# Altium footprint library Inductor_THT.PcbLib: 269 footprints (part 15 of 17)
Each footprint in its own frame and in the unit in brackets; x right, y up, seen from the top. Pads: shape width x height; smd on the part's side, far side on the other; paste and mask are expansions set on the pad; w line width, h text height; cw(c..) or ccw(c..) is an arc to the next point about the centre after c.
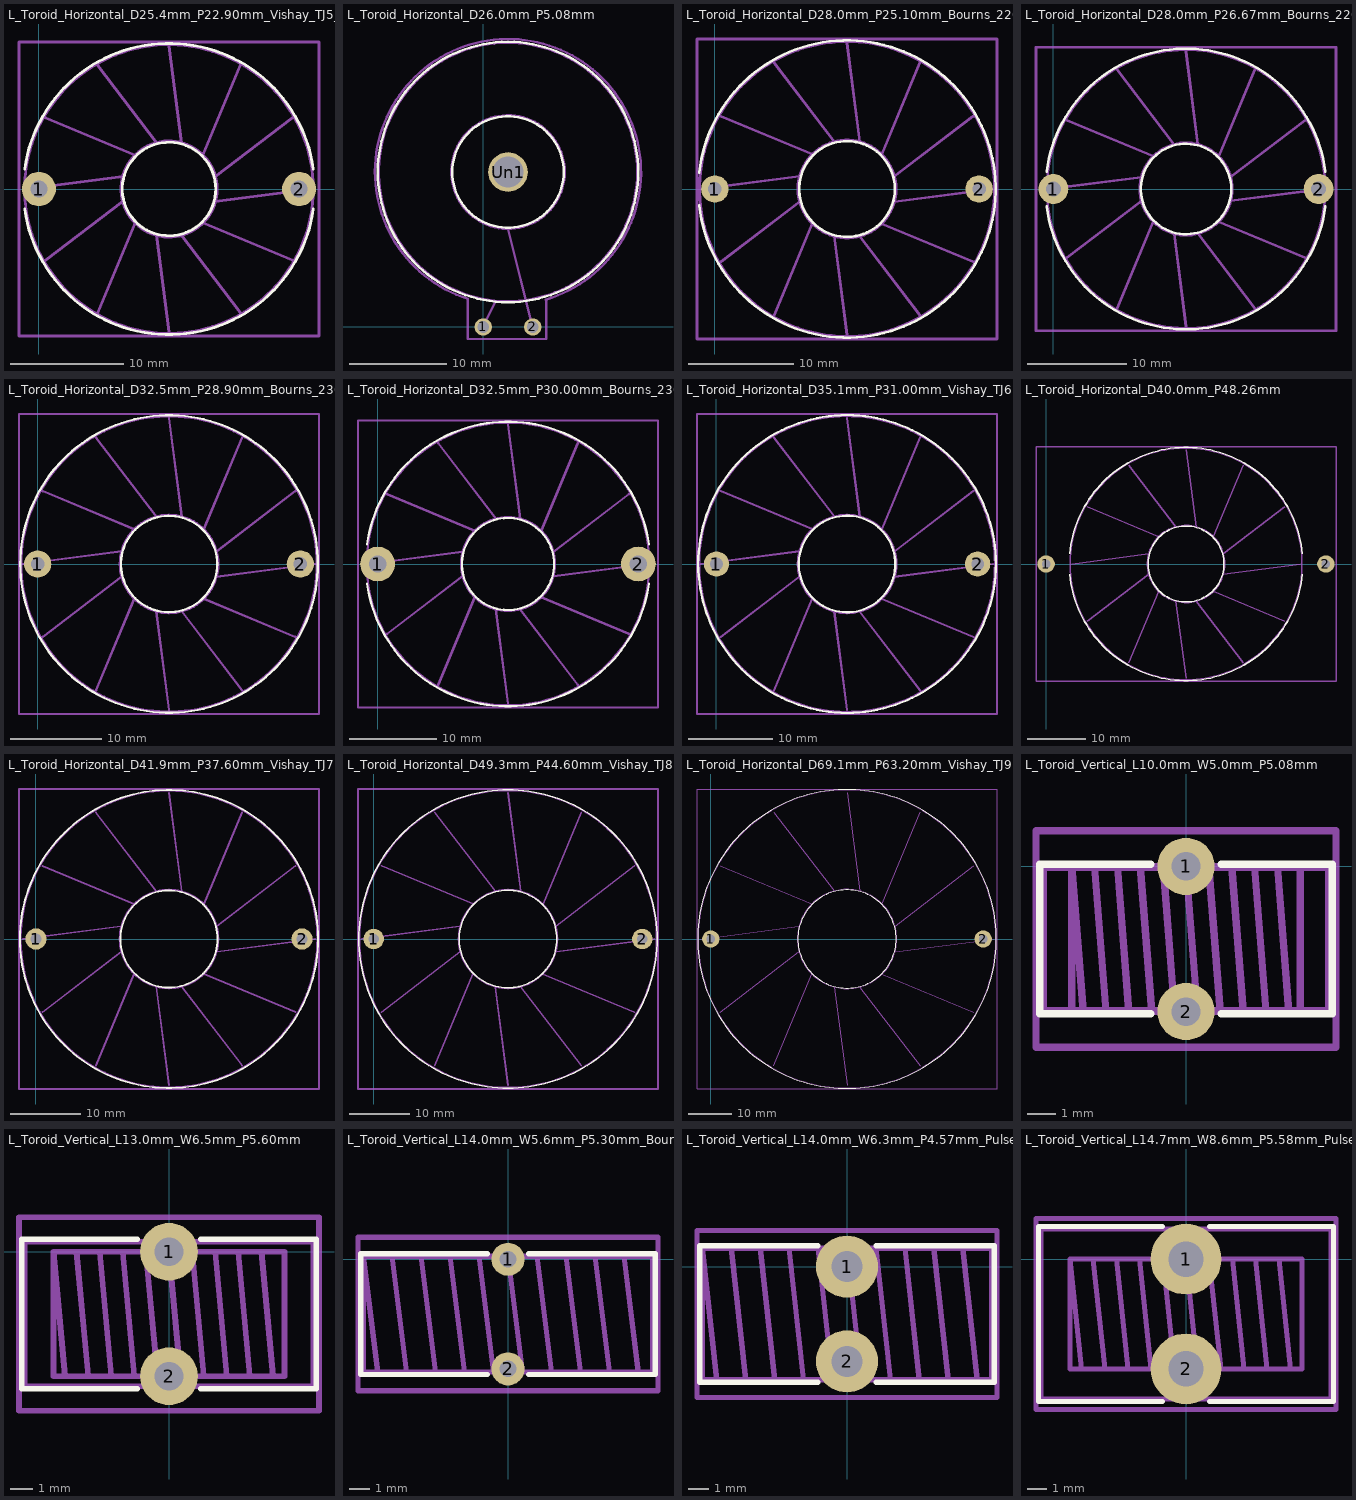
[diagram p14: the footprints below, top view; thin cyan lines are the x and y axes]

## L_Toroid_Horizontal_D25.4mm_P22.90mm_Vishay_TJ5_BigPads [mm]
pads (2):
  round 3 hole 1.5: 1(0,0) 2(22.9,0)
F.SilkS:
  circle w0.254: c11.45,0 r4.113
  lines w0.254: -1.249,-1.76 ccw(c11.45,0) 24.149,-1.76 ; -1.249,1.76 cw(c11.45,0) 24.149,1.76
Top Assembly:
  circle w0.254: c11.45,0 r12.7
  circle w0.254: c11.45,0 r4.233
  lines w0.254: -1.114,0 7.397,1.086 ; 0.57,-6.282 7.397,-1.086 ; 0.57,6.282 8.483,2.967 ; 5.168,-10.88 8.483,-2.967 ; 5.168,10.88 10.364,4.053 ; 10.364,-4.053 11.45,-12.564 ; 11.45,12.564 12.536,4.053 ; 12.536,-4.053 17.732,-10.88 ; 14.417,-2.967 22.33,-6.282 ; 14.417,2.967 17.732,10.88 ; 15.503,-1.086 24.014,0 ; 15.503,1.086 22.33,6.282
  text "'.Designator'" at 7.403,-0.84 h1
Top Courtyard:
  lines w0.254: -1.75,-12.95 24.65,-12.95 24.65,12.95 -1.75,12.95 -1.75,-12.95
Top Designator:
  text ".Designator" at 3.832,-0.508 h1.52

## L_Toroid_Horizontal_D26.0mm_P5.08mm [mm]
pads (3):
  round 1.78 hole 1.19: 1(0,0) 2(5.08,0)
  round 4.06 hole 3.17: Un1(2.54,15.88)
F.SilkS:
  circle w0.254: c2.54,15.88 r5.71
  circle w0.254: c2.54,15.88 r13.34
Top Assembly:
  circle w0.254: c2.54,15.88 r5.813
  circle w0.254: c2.54,15.88 r13.246
  lines w0.254: 0,0.1 1.27,2.64 ; 2.54,10.06 5.08,-0.1
  text "'.Designator'" at -1.507,13.673 h1
Top Courtyard:
  lines w0.254: 6.41,2.81 ccw(c2.54,15.88) -1.56,2.88 -1.56,-1.23 6.44,-1.23 6.44,2.78
Top Designator:
  text ".Designator" at -5.078,13.633 h1.52

## L_Toroid_Horizontal_D28.0mm_P25.10mm_Bourns_2200 [mm]
pads (2):
  round 2.6 hole 1.3: 1(0,0) 2(25.1,0)
F.SilkS:
  circle w0.254: c12.55,0 r4.547
  lines w0.254: -1.484,-1.56 ccw(c12.55,0) -1.484,1.56
Top Assembly:
  circle w0.254: c12.55,0 r14
  circle w0.254: c12.55,0 r4.667
  lines w0.254: -1.288,0 8.07,1.2 ; 0.566,-6.919 8.07,-1.2 ; 0.566,6.919 9.271,3.279 ; 5.631,-11.984 9.271,-3.279 ; 5.631,11.984 11.35,4.48 ; 11.35,-4.48 12.55,-13.838 ; 12.55,13.838 13.75,4.48 ; 13.75,-4.48 19.469,-11.984 ; 15.829,-3.279 24.534,-6.919 ; 15.829,3.279 19.469,11.984 ; 17.03,-1.2 26.388,0 ; 17.03,1.2 24.534,6.919
  text "'.Designator'" at 8.503,-0.84 h1
Top Courtyard:
  lines w0.254: -1.7,-14.25 26.8,-14.25 26.8,14.25 -1.7,14.25 -1.7,-14.25
Top Designator:
  text ".Designator" at 4.932,-0.508 h1.52

## L_Toroid_Horizontal_D28.0mm_P26.67mm_Bourns_2200 [mm]
pads (2):
  round 3 hole 1.5: 1(0,0) 2(26.67,0)
F.SilkS:
  circle w0.254: c13.335,0 r4.547
  lines w0.254: -0.675,-1.76 ccw(c13.335,0) 27.345,-1.76 ; -0.675,1.76 cw(c13.335,0) 27.345,1.76
Top Assembly:
  circle w0.254: c13.335,0 r14
  circle w0.254: c13.335,0 r4.667
  lines w0.254: -0.503,0 8.855,1.2 ; 1.351,-6.919 8.855,-1.2 ; 1.351,6.919 10.056,3.279 ; 6.416,-11.984 10.056,-3.279 ; 6.416,11.984 12.135,4.48 ; 12.135,-4.48 13.335,-13.838 ; 13.335,13.838 14.535,4.48 ; 14.535,-4.48 20.254,-11.984 ; 16.614,-3.279 25.319,-6.919 ; 16.614,3.279 20.254,11.984 ; 17.815,-1.2 27.173,0 ; 17.815,1.2 25.319,6.919
  text "'.Designator'" at 9.288,-0.84 h1
Top Courtyard:
  lines w0.254: -1.75,-14.25 28.42,-14.25 28.42,14.25 -1.75,14.25 -1.75,-14.25
Top Designator:
  text ".Designator" at 5.717,-0.508 h1.52

## L_Toroid_Horizontal_D32.5mm_P28.90mm_Bourns_2300 [mm]
pads (2):
  round 3 hole 1.5: 1(0,0) 2(28.9,0)
F.SilkS:
  circle w0.254: c14.45,0 r16.37
  circle w0.254: c14.45,0 r5.297
Top Assembly:
  circle w0.254: c14.45,0 r16.25
  circle w0.254: c14.45,0 r5.417
  lines w0.254: -1.593,0 9.231,1.398 ; 0.557,-8.021 9.231,-1.398 ; 0.557,8.021 10.63,3.82 ; 6.429,-13.893 10.63,-3.82 ; 6.429,13.893 13.052,5.219 ; 13.052,-5.219 14.45,-16.043 ; 14.45,16.043 15.848,5.219 ; 15.848,-5.219 22.471,-13.893 ; 18.27,-3.82 28.343,-8.021 ; 18.27,3.82 22.471,13.893 ; 19.669,-1.398 30.493,0 ; 19.669,1.398 28.343,8.021
  text "'.Designator'" at 10.403,-0.84 h1
Top Courtyard:
  lines w0.254: -2.06,-16.5 30.95,-16.5 30.95,16.5 -2.06,16.5 -2.06,-16.5
Top Designator:
  text ".Designator" at 6.827,-0.508 h1.52

## L_Toroid_Horizontal_D32.5mm_P30.00mm_Bourns_2300 [mm]
pads (2):
  round 4 hole 2: 1(0,0) 2(30,0)
F.SilkS:
  circle w0.254: c15,0 r5.297
  lines w0.254: -1.213,-2.26 ccw(c15,0) 31.213,-2.26 ; -1.213,2.26 cw(c15,0) 31.213,2.26
Top Assembly:
  circle w0.254: c15,0 r16.25
  circle w0.254: c15,0 r5.417
  lines w0.254: -1.043,0 9.781,1.398 ; 1.107,-8.021 9.781,-1.398 ; 1.107,8.021 11.18,3.82 ; 6.979,-13.893 11.18,-3.82 ; 6.979,13.893 13.602,5.219 ; 13.602,-5.219 15,-16.043 ; 15,16.043 16.398,5.219 ; 16.398,-5.219 23.021,-13.893 ; 18.82,-3.82 28.893,-8.021 ; 18.82,3.82 23.021,13.893 ; 20.219,-1.398 31.043,0 ; 20.219,1.398 28.893,8.021
  text "'.Designator'" at 10.953,-0.84 h1
Top Courtyard:
  lines w0.254: -2.25,-16.5 32.25,-16.5 32.25,16.5 -2.25,16.5 -2.25,-16.5
Top Designator:
  text ".Designator" at 7.382,-0.508 h1.52

## L_Toroid_Horizontal_D35.1mm_P31.00mm_Vishay_TJ6 [mm]
pads (2):
  round 3 hole 1.5: 1(0,0) 2(31,0)
F.SilkS:
  circle w0.254: c15.5,0 r17.67
  circle w0.254: c15.5,0 r5.73
Top Assembly:
  circle w0.254: c15.5,0 r17.55
  circle w0.254: c15.5,0 r5.85
  lines w0.254: -1.817,0 9.855,1.513 ; 0.503,-8.658 9.855,-1.513 ; 0.503,8.658 11.367,4.133 ; 6.842,-14.997 11.367,-4.133 ; 6.842,14.997 13.987,5.645 ; 13.987,-5.645 15.5,-17.317 ; 15.5,17.317 17.013,5.645 ; 17.013,-5.645 24.158,-14.997 ; 19.633,-4.133 30.497,-8.658 ; 19.633,4.133 24.158,14.997 ; 21.145,-1.513 32.817,0 ; 21.145,1.513 30.497,8.658
  text "'.Designator'" at 11.453,-0.84 h1
Top Courtyard:
  lines w0.254: -2.31,-17.8 33.3,-17.8 33.3,17.8 -2.31,17.8 -2.31,-17.8
Top Designator:
  text ".Designator" at 7.877,-0.508 h1.52

## L_Toroid_Horizontal_D40.0mm_P48.26mm [mm]
pads (2):
  round 3 hole 1.5: 1(0,0) 2(48.26,0)
F.SilkS:
  circle w0.254: c24.13,0 r6.547
  lines w0.254: 4.087,-1.76 ccw(c24.13,0) 44.173,-1.76 ; 4.087,1.76 cw(c24.13,0) 44.173,1.76
Top Assembly:
  circle w0.254: c24.13,0 r20
  circle w0.254: c24.13,0 r6.667
  lines w0.254: 4.412,0 17.68,1.728 ; 7.054,-9.859 17.68,-1.728 ; 7.054,9.859 19.408,4.722 ; 14.271,-17.076 19.408,-4.722 ; 14.271,17.076 22.402,6.45 ; 22.402,-6.45 24.13,-19.718 ; 24.13,19.718 25.858,6.45 ; 25.858,-6.45 33.989,-17.076 ; 28.852,-4.722 41.206,-9.859 ; 28.852,4.722 33.989,17.076 ; 30.58,-1.728 43.848,0 ; 30.58,1.728 41.206,9.859
  text "'.Designator'" at 20.083,-0.84 h1
Top Courtyard:
  lines w0.254: -1.75,-20.25 50.01,-20.25 50.01,20.25 -1.75,20.25 -1.75,-20.25
Top Designator:
  text ".Designator" at 16.512,-0.508 h1.52

## L_Toroid_Horizontal_D41.9mm_P37.60mm_Vishay_TJ7 [mm]
pads (2):
  round 3 hole 1.5: 1(0,0) 2(37.6,0)
F.SilkS:
  circle w0.254: c18.8,0 r21.07
  circle w0.254: c18.8,0 r6.863
Top Assembly:
  circle w0.254: c18.8,0 r20.95
  circle w0.254: c18.8,0 r6.983
  lines w0.254: -1.849,0 12.038,1.812 ; 0.918,-10.324 12.038,-1.812 ; 0.918,10.324 13.85,4.95 ; 8.476,-17.882 13.85,-4.95 ; 8.476,17.882 16.988,6.762 ; 16.988,-6.762 18.8,-20.649 ; 18.8,20.649 20.612,6.762 ; 20.612,-6.762 29.124,-17.882 ; 23.75,-4.95 36.682,-10.324 ; 23.75,4.95 29.124,17.882 ; 25.562,-1.812 39.449,0 ; 25.562,1.812 36.682,10.324
  text "'.Designator'" at 14.753,-0.84 h1
Top Courtyard:
  lines w0.254: -2.4,-21.2 40,-21.2 40,21.2 -2.4,21.2 -2.4,-21.2
Top Designator:
  text ".Designator" at 11.182,-0.508 h1.52

## L_Toroid_Horizontal_D49.3mm_P44.60mm_Vishay_TJ8 [mm]
pads (2):
  round 3.4 hole 1.7: 1(0,0) 2(44.6,0)
F.SilkS:
  circle w0.254: c22.3,0 r24.77
  circle w0.254: c22.3,0 r8.097
Top Assembly:
  circle w0.254: c22.3,0 r24.65
  circle w0.254: c22.3,0 r8.217
  lines w0.254: -1.975,0 14.323,2.137 ; 1.278,-12.137 14.323,-2.137 ; 1.278,12.137 16.46,5.84 ; 10.163,-21.022 16.46,-5.84 ; 10.163,21.022 20.163,7.977 ; 20.163,-7.977 22.3,-24.275 ; 22.3,24.275 24.437,7.977 ; 24.437,-7.977 34.437,-21.022 ; 28.14,-5.84 43.322,-12.137 ; 28.14,5.84 34.437,21.022 ; 30.277,-2.137 46.575,0 ; 30.277,2.137 43.322,12.137
  text "'.Designator'" at 18.253,-0.84 h1
Top Courtyard:
  lines w0.254: -2.6,-24.9 47.2,-24.9 47.2,24.9 -2.6,24.9 -2.6,-24.9
Top Designator:
  text ".Designator" at 14.682,-0.508 h1.52

## L_Toroid_Horizontal_D69.1mm_P63.20mm_Vishay_TJ9 [mm]
pads (2):
  round 4 hole 2: 1(0,0) 2(63.2,0)
F.SilkS:
  circle w0.254: c31.6,0 r34.67
  circle w0.254: c31.6,0 r11.397
Top Assembly:
  circle w0.254: c31.6,0 r34.55
  circle w0.254: c31.6,0 r11.517
  lines w0.254: -2.377,0 20.371,3.009 ; 2.175,-16.988 20.371,-3.009 ; 2.175,16.988 23.38,8.22 ; 14.612,-29.425 23.38,-8.22 ; 14.612,29.425 28.591,11.229 ; 28.591,-11.229 31.6,-33.977 ; 31.6,33.977 34.609,11.229 ; 34.609,-11.229 48.588,-29.425 ; 39.82,-8.22 61.025,-16.988 ; 39.82,8.22 48.588,29.425 ; 42.829,-3.009 65.577,0 ; 42.829,3.009 61.025,16.988
  text "'.Designator'" at 27.553,-0.84 h1
Top Courtyard:
  lines w0.254: -3.2,-34.8 66.4,-34.8 66.4,34.8 -3.2,34.8 -3.2,-34.8
Top Designator:
  text ".Designator" at 23.982,-0.508 h1.52

## L_Toroid_Vertical_L10.0mm_W5.0mm_P5.08mm [mm]
pads (2):
  round 2 hole 1: 1(0,0) 2(0,-5.08)
F.SilkS:
  lines w0.254: -1.237,-5.16 -5.12,-5.16 -5.12,0.08 -1.237,0.08 ; 1.237,-5.16 5.12,-5.16 5.12,0.08 1.237,0.08
Top Assembly:
  lines w0.254: -3.6,-5.08 -4,0 ; -3.2,0 -2.8,-5.08 ; -2.4,0 -2,-5.08 ; -1.6,0 -1.2,-5.08 ; -0.8,0 -0.4,-5.08 ; 0,0 0.4,-5.08 ; 0.8,0 1.2,-5.08 ; 1.6,0 2,-5.08 ; 2.4,0 2.8,-5.08 ; 3.2,0 3.6,-5.08 ; -4,0 4,0 4,-5.08 -4,-5.08 -4,0 ; -5,-5.04 5,-5.04 5,-0.04 -5,-0.04 -5,-5.04
  text "'.Designator'" at -1.507,-0.84 h1
Top Courtyard:
  lines w0.254: -5.25,-6.33 5.25,-6.33 5.25,1.25 -5.25,1.25 -5.25,-6.33
Top Designator:
  text ".Designator" at -7.088,-3.048 h1.52

## L_Toroid_Vertical_L13.0mm_W6.5mm_P5.60mm [mm]
pads (2):
  round 2.6 hole 1.3: 1(0,0) 2(0,-5.6)
F.SilkS:
  lines w0.254: -1.431,-6.17 -6.62,-6.17 -6.62,0.57 -1.431,0.57 ; 1.431,-6.17 6.62,-6.17 6.62,0.57 1.431,0.57
Top Assembly:
  lines w0.254: -4.68,-5.6 -5.2,0 ; -4.16,0 -3.64,-5.6 ; -3.12,0 -2.6,-5.6 ; -2.08,0 -1.56,-5.6 ; -1.04,0 -0.52,-5.6 ; 0,0 0.52,-5.6 ; 1.04,0 1.56,-5.6 ; 2.08,0 2.6,-5.6 ; 3.12,0 3.64,-5.6 ; 4.16,0 4.68,-5.6 ; -5.2,0 5.2,0 5.2,-5.6 -5.2,-5.6 -5.2,0 ; -6.5,-6.05 6.5,-6.05 6.5,0.45 -6.5,0.45 -6.5,-6.05
  text "'.Designator'" at -1.247,-0.84 h1
Top Courtyard:
  lines w0.254: -6.75,-7.15 6.75,-7.15 6.75,1.55 -6.75,1.55 -6.75,-7.15
Top Designator:
  text ".Designator" at -7.618,-3.308 h1.52

## L_Toroid_Vertical_L14.0mm_W5.6mm_P5.30mm_Bourns_5700 [mm]
pads (2):
  round 1.6 hole 0.8: 1(0,0) 2(0,-5.3)
F.SilkS:
  lines w0.254: -1.004,-5.57 -7.12,-5.57 -7.12,0.27 -1.004,0.27 ; 1.004,-5.57 7.12,-5.57 7.12,0.27 1.004,0.27
Top Assembly:
  lines w0.254: -6.3,-5.45 -7,0.15 ; -5.6,0.15 -4.9,-5.45 ; -4.2,0.15 -3.5,-5.45 ; -2.8,0.15 -2.1,-5.45 ; -1.4,0.15 -0.7,-5.45 ; 0,0.15 0.7,-5.45 ; 1.4,0.15 2.1,-5.45 ; 2.8,0.15 3.5,-5.45 ; 4.2,0.15 4.9,-5.45 ; 5.6,0.15 6.3,-5.45 ; -7,0.15 7,0.15 7,-5.45 -7,-5.45 -7,0.15
  text "'.Designator'" at -1.397,-0.84 h1
Top Courtyard:
  lines w0.254: -7.25,-6.35 7.25,-6.35 7.25,1.06 -7.25,1.06 -7.25,-6.35
Top Designator:
  text ".Designator" at -7.618,-3.153 h1.52

## L_Toroid_Vertical_L14.0mm_W6.3mm_P4.57mm_Pulse_A [mm]
pads (2):
  round 3 hole 1.5: 1(0,0) 2(0,-4.57)
F.SilkS:
  lines w0.254: -1.417,-5.58 -7.105,-5.58 -7.105,1.01 -1.417,1.01 ; 1.417,-5.58 7.105,-5.58 7.105,1.01 1.417,1.01
Top Assembly:
  lines w0.254: -6.286,-5.46 -6.985,0.89 ; -5.588,0.89 -4.889,-5.46 ; -4.191,0.89 -3.492,-5.46 ; -2.794,0.89 -2.095,-5.46 ; -1.397,0.89 -0.699,-5.46 ; 0,0.89 0.699,-5.46 ; 1.397,0.89 2.095,-5.46 ; 2.794,0.89 3.492,-5.46 ; 4.191,0.89 4.889,-5.46 ; 5.588,0.89 6.286,-5.46 ; -6.985,0.89 6.985,0.89 6.985,-5.46 -6.985,-5.46 -6.985,0.89
  text "'.Designator'" at -1.762,-0.84 h1
Top Courtyard:
  lines w0.254: -7.24,-6.32 7.24,-6.32 7.24,1.75 -7.24,1.75 -7.24,-6.32
Top Designator:
  text ".Designator" at -7.618,-2.793 h1.52

## L_Toroid_Vertical_L14.7mm_W8.6mm_P5.58mm_Pulse_KM-1 [mm]
pads (2):
  round 3.6 hole 1.8: 1(0,0) 2(0,-5.58)
F.SilkS:
  lines w0.254: -1.2,-7.23 -7.485,-7.23 -7.485,1.65 -1.2,1.65 ; 1.2,-7.23 7.485,-7.23 7.485,1.65 1.2,1.65
Top Assembly:
  lines w0.254: -5.303,-5.58 -5.892,0 ; -4.714,0 -4.124,-5.58 ; -3.535,0 -2.946,-5.58 ; -2.357,0 -1.768,-5.58 ; -1.178,0 -0.589,-5.58 ; 0,0 0.589,-5.58 ; 1.178,0 1.768,-5.58 ; 2.357,0 2.946,-5.58 ; 3.535,0 4.124,-5.58 ; 4.714,0 5.303,-5.58 ; -5.892,0 5.892,0 5.892,-5.58 -5.892,-5.58 -5.892,0 ; -7.365,-7.11 7.365,-7.11 7.365,1.53 -7.365,1.53 -7.365,-7.11
  text "'.Designator'" at -1.257,-0.84 h1
Top Courtyard:
  lines w0.254: -7.62,-7.63 7.62,-7.63 7.62,2.05 -7.62,2.05 -7.62,-7.63
Top Designator:
  text ".Designator" at -7.618,-3.298 h1.52